# EAGLE library part 50281-028 (library con-aces-50281-series)
ACES CONNECTORS 50281 SERIES ACES Connecors 50281
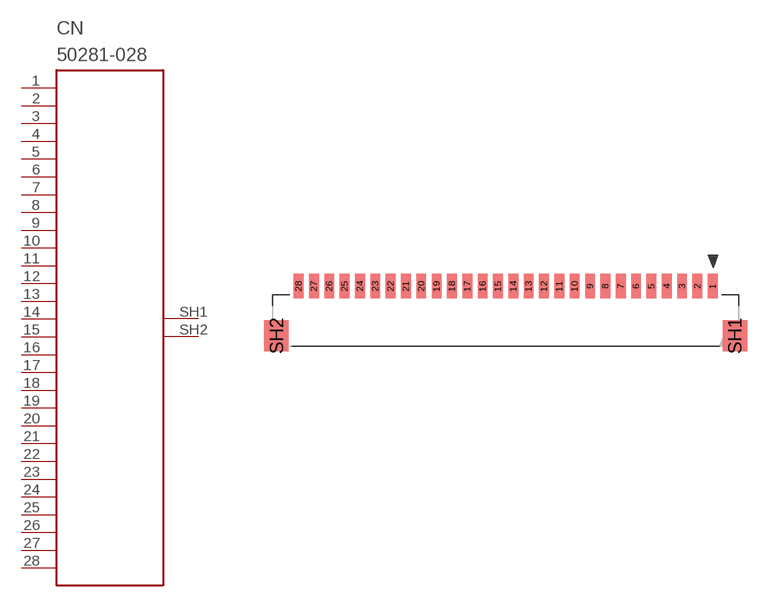
[diagram p18: symbol with the pads of 50281-028; footprint 50281-028]

Designator prefix CN

## 50281-028  [50281-028]
1  1
2  2
3  3
4  4
5  5
6  6
7  7
8  8
9  9
10  10
11  11
12  12
13  13
14  14
15  15
16  16
17  17
18  18
19  19
20  20
21  21
22  22
23  23
24  24
25  25
26  26
27  27
28  28
SH1  SH1
SH2  SH2

## Footprint 50281-028 (pad centres in mm)
smd 0.8 x 2: 1 16.875,1.9; 2 15.625,1.9; 3 14.375,1.9; 4 13.125,1.9; 5 11.875,1.9; 6 10.625,1.9; 7 9.375,1.9; 8 8.125,1.9; 9 6.875,1.9; 10 5.625,1.9; 11 4.375,1.9; 12 3.125,1.9; 13 1.875,1.9; 14 0.625,1.9; 15 -0.625,1.9; 16 -1.875,1.9; 17 -3.125,1.9; 18 -4.375,1.9; 19 -5.625,1.9; 20 -6.875,1.9; 21 -8.125,1.9; 22 -9.375,1.9; 23 -10.625,1.9; 24 -11.875,1.9; 25 -13.125,1.9; 26 -14.375,1.9; 27 -15.625,1.9; 28 -16.875,1.9
smd 2 x 2.5: SH1 18.675,-2.15; SH2 -18.675,-2.15